# EAGLE library part FTDI_HEADER (library ftdi_header)
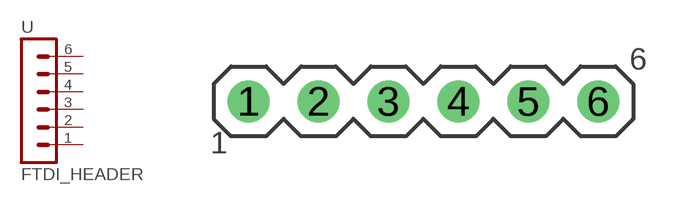
[diagram p0: symbol with the pads of FTDI_HEADER; footprint FTDI_HEADER]

Designator prefix -

## FTDI_HEADER  [FTDI_HEADER]
1  1  pas
2  2  pas
3  3  pas
4  4  pas
5  5  pas
6  6  pas

## Footprint FTDI_HEADER (pad centres in mm)
drill 1.016: 1 -6.35,0; 2 -3.81,0; 3 -1.27,0; 4 1.27,0; 5 3.81,0; 6 6.35,0